# Altium integrated library ON Semi Signal Management Audio Switches.IntLib: 38 symbols (part 2 of 2)
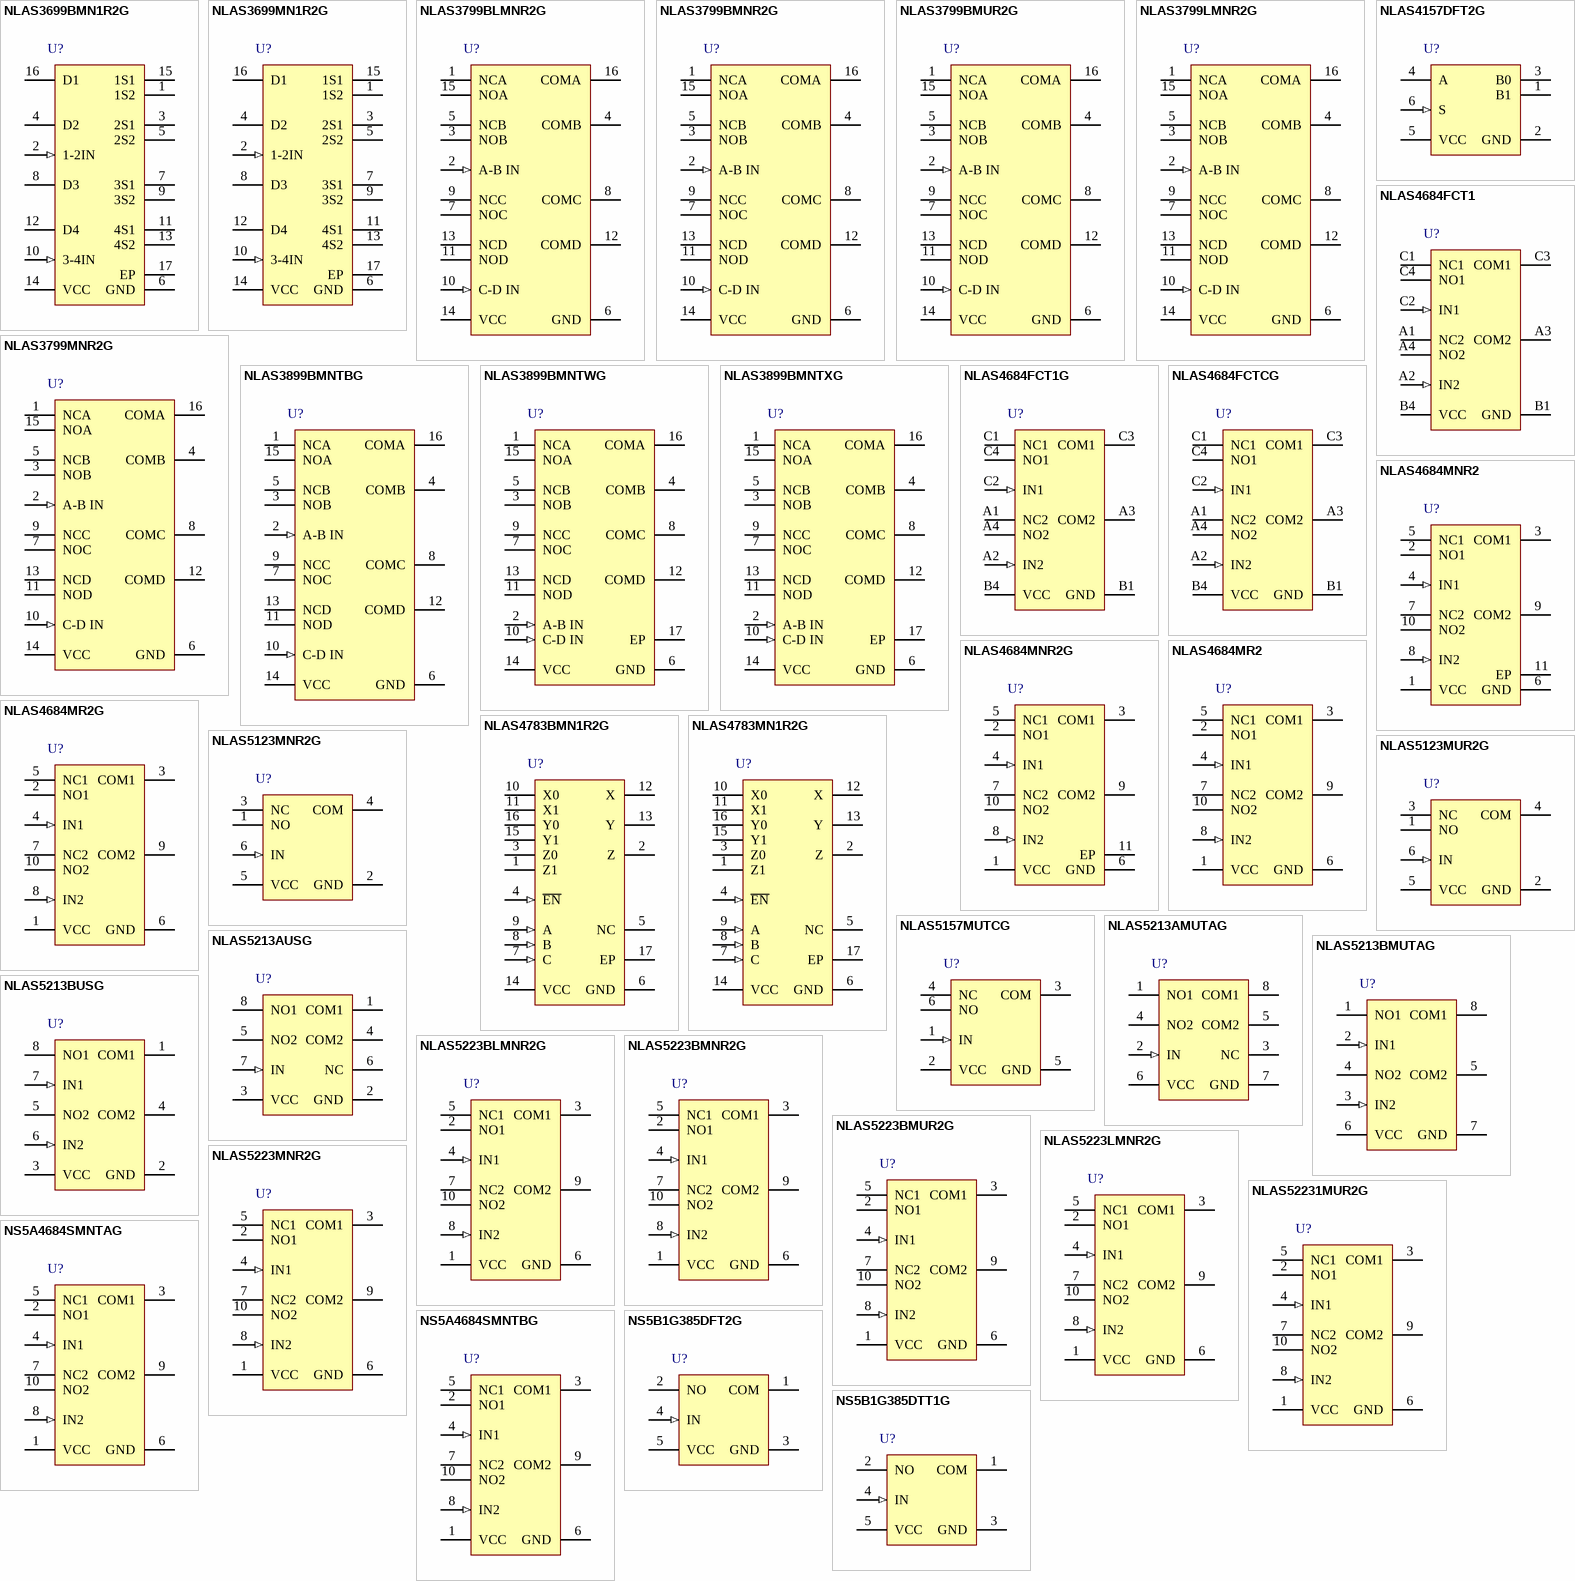
[diagram p2: symbols NLAS3699BMN1R2G to NS5B1G385DTT1G]

## NS5B1G385DFT2G
designator U?
Single (NO) Normally Open SPST Analog Switch, 2 to 5.5 V, -40 to 85 degC, 5-Pin SC70, Pb-Free, Tape and Reel; Manufacturer: On Semiconductor; PartNumber: NS5B1G385DFT2G; Icc Max (uA): 1; VCC Max (V): 5.5; VCC Min (V): 2; DatasheetVersion: Rev. 0; PackageVersion: Rev. K, 07/2010; PackageReference: SC70-5-419A-02_K; PackageDescription: 5-Pin Small Outline Transistor, Body 2 x 1.25 mm, Pitch 0.65 mm; Supplier 1: Digi-Key; Supplier Part Number 1: NS5B1G385DFT2G-ND; Supplier 2: Mouser; Supplier Part Number 2: 863-NS5B1G385DFT2G; Packing: Tape and Reel; RoHS: TRUE; Mounting Technology: Surface Mount; ComponentLink1Description: Manufacturer URL; ComponentLink1URL: http://www.onsemi.com/; ComponentLink2Description: Datasheet; ComponentLink2URL: http://www.onsemi.cn/pub_link/Collateral/NS5B1G385-D.PDF; ComponentLink3Description: Package Specification; ComponentLink3URL: http://www.onsemi.cn/pub_link/Collateral/LMV821-D.PDF
footprint ONSC-SC70-5-419A-02_K_N (SOT23, 5-Leads, Body 2.2x1.35mm, Pitch 0.65mm, IPC Medium Density)
footprint ONSC-SC70-5-419A-02_K_L (SOT23, 5-Leads, Body 2.2x1.35mm, Pitch 0.65mm, IPC High Density)
footprint ONSC-SC70-5-419A-02_K_M (SOT23, 5-Leads, Body 2.2x1.35mm, Pitch 0.65mm, IPC Low Density)
pins: 1 COM "Common Signal Line", 2 NO "Normally Open Signal Line", 3 GND (power) "Ground", 4 IN (in) "Control Signal Line", 5 VCC (power) "Voltage Supply"

## NS5B1G385DTT1G
designator U?
Single (NO) Normally Open SPST Analog Switch, 2 to 5.5 V, -40 to 85 degC, 5-Pin TSOP, Pb-Free, Tape and Reel; Manufacturer: On Semiconductor; PartNumber: NS5B1G385DTT1G; Icc Max (uA): 1; VCC Max (V): 5.5; VCC Min (V): 2; DatasheetVersion: Rev. 0; PackageVersion: Rev. K, 04/2013; PackageReference: TSOP-5-483-02; PackageDescription: 5-Pin Small Outline Package, Body 3 x 1.5 mm, Pitch 0.95 mm; Supplier 1: Digi-Key; Supplier Part Number 1: NS5B1G385DTT1GOSTR-ND; Supplier 2: Digi-Key; Supplier Part Number 2: NS5B1G385DTT1GOSCT-ND; Supplier 3: Digi-Key; Supplier Part Number 3: NS5B1G385DTT1GOSDKR-ND; Supplier 4: Mouser; Supplier Part Number 4: 863-NS5B1G385DTT1G; Packing: Tape and Reel; RoHS: TRUE; Mounting Technology: Surface Mount; ComponentLink1Description: Manufacturer URL; ComponentLink1URL: http://www.onsemi.com/; ComponentLink2Description: Datasheet; ComponentLink2URL: http://www.onsemi.cn/pub_link/Collateral/NS5B1G385-D.PDF; ComponentLink3Description: Package Specification; ComponentLink3URL: http://www.onsemi.com/pub_link/Collateral/483.PDF
footprint ONSC-TSOP-5-483-02_V (SOP, 5-Leads, Body 3x1.5mm, Pitch 0.95mm)
pins: 1 COM "Common Signal Line", 2 NO "Normally Open Signal Line", 3 GND (power) "Ground", 4 IN (in) "Control Signal Line", 5 VCC (power) "Voltage Supply"

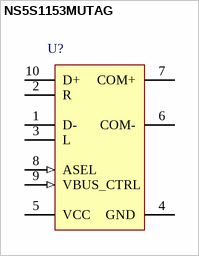
[diagram p1: symbol NS5S1153MUTAG]

## NS5S1153MUTAG
designator U?
USB 2.0 High Speed and Audio Switch with Negative Swing Capability, 2.7 to 5 V, -40 to 85 degC, 10-Pin UQFN, Pb-Free, Tape and Reel; Manufacturer: On Semiconductor; PartNumber: NS5S1153MUTAG; Icc Max (uA): 35; VCC Max (V): 5; VCC Min (V): 2.7; DatasheetVersion: Rev. 2; PackageVersion: Rev. A, 08/2007; PackageReference: UQFN-10-488AT-01; PackageDescription: 10-Pin Quad Flat No-Lead, Body 1.4 x 1.8 mm, Pitch 0.4 mm; Supplier 1: Digi-Key; Supplier Part Number 1: NS5S1153MUTAGOSTR-ND; Supplier 2: Digi-Key; Supplier Part Number 2: NS5S1153MUTAGOSCT-ND; Supplier 3: Digi-Key; Supplier Part Number 3: NS5S1153MUTAGOSDKR-ND; Supplier 4: Mouser; Supplier Part Number 4: 863-NS5S1153MUTAG; Packing: Tape and Reel; RoHS: TRUE; Mounting Technology: Surface Mount; ComponentLink1Description: Manufacturer URL; ComponentLink1URL: http://www.onsemi.com/; ComponentLink2Description: Datasheet; ComponentLink2URL: http://www.onsemi.cn/pub_link/Collateral/NS5S1153-D.PDF; ComponentLink3Description: Package Specification; ComponentLink3URL: http://www.onsemi.cn/pub_link/Collateral/488AT.PDF
footprint ONSC-UQFN-10-488AT-01_V (QFN, 10-Leads, Body 1.8x1.4mm, Pitch 0.4mm)
pins: 1 D- "Negative Data Line for USB Signals", 2 R "Right Line for Audio Signals", 3 L "Left Line for Audio Signals", 4 GND (power) "Ground", 5 VCC (power) "Power Supply", 6 COM- "Left Audio / Negative Data Common Line", 7 COM+ "Right Audio / Positive Data Common Line", 8 ASEL (in) "Control Input Override Select Line", 9 VBUS_CTRL (in) "Control Input Select Line from VBUS", 10 D+ "Positive Data Line for USB Signals"